# EAGLE library part HTRC110 (library Philips-semiconductors2)
http://www.nxp.com/documents/data_sheet/ht037030.pdf
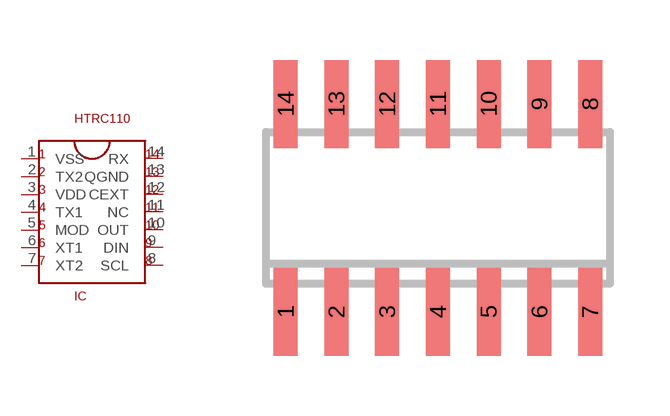
[diagram p11: symbol with the pads of SO14; footprint SO14]

Designator prefix IC

## HTRC110  [SO14]
1  VSS  pwr
2  TX2
3  VDD  pwr
4  TX1
5  MOD
6  XT1
7  XT2
8  SCL
9  DIN  in
10  OUT  out
11  NC  nc
12  CEXT
13  QGND  pwr
14  RX  in

## Footprint SO14 (pad centres in mm)
Small Outline Package 14
smd 0.6 x 2.2: 1 -3.81,-2.6; 2 -2.54,-2.6; 3 -1.27,-2.6; 4 0,-2.6; 5 1.27,-2.6; 6 2.54,-2.6; 7 3.81,-2.6; 8 3.81,2.6; 9 2.54,2.6; 10 1.27,2.6; 11 0,2.6; 12 -1.27,2.6; 13 -2.54,2.6; 14 -3.81,2.6